# Altium schematic symbol library Radio Lib.SchLib: 41 symbols
Pins are listed as number, name and electrical type; pins without a type are passive.

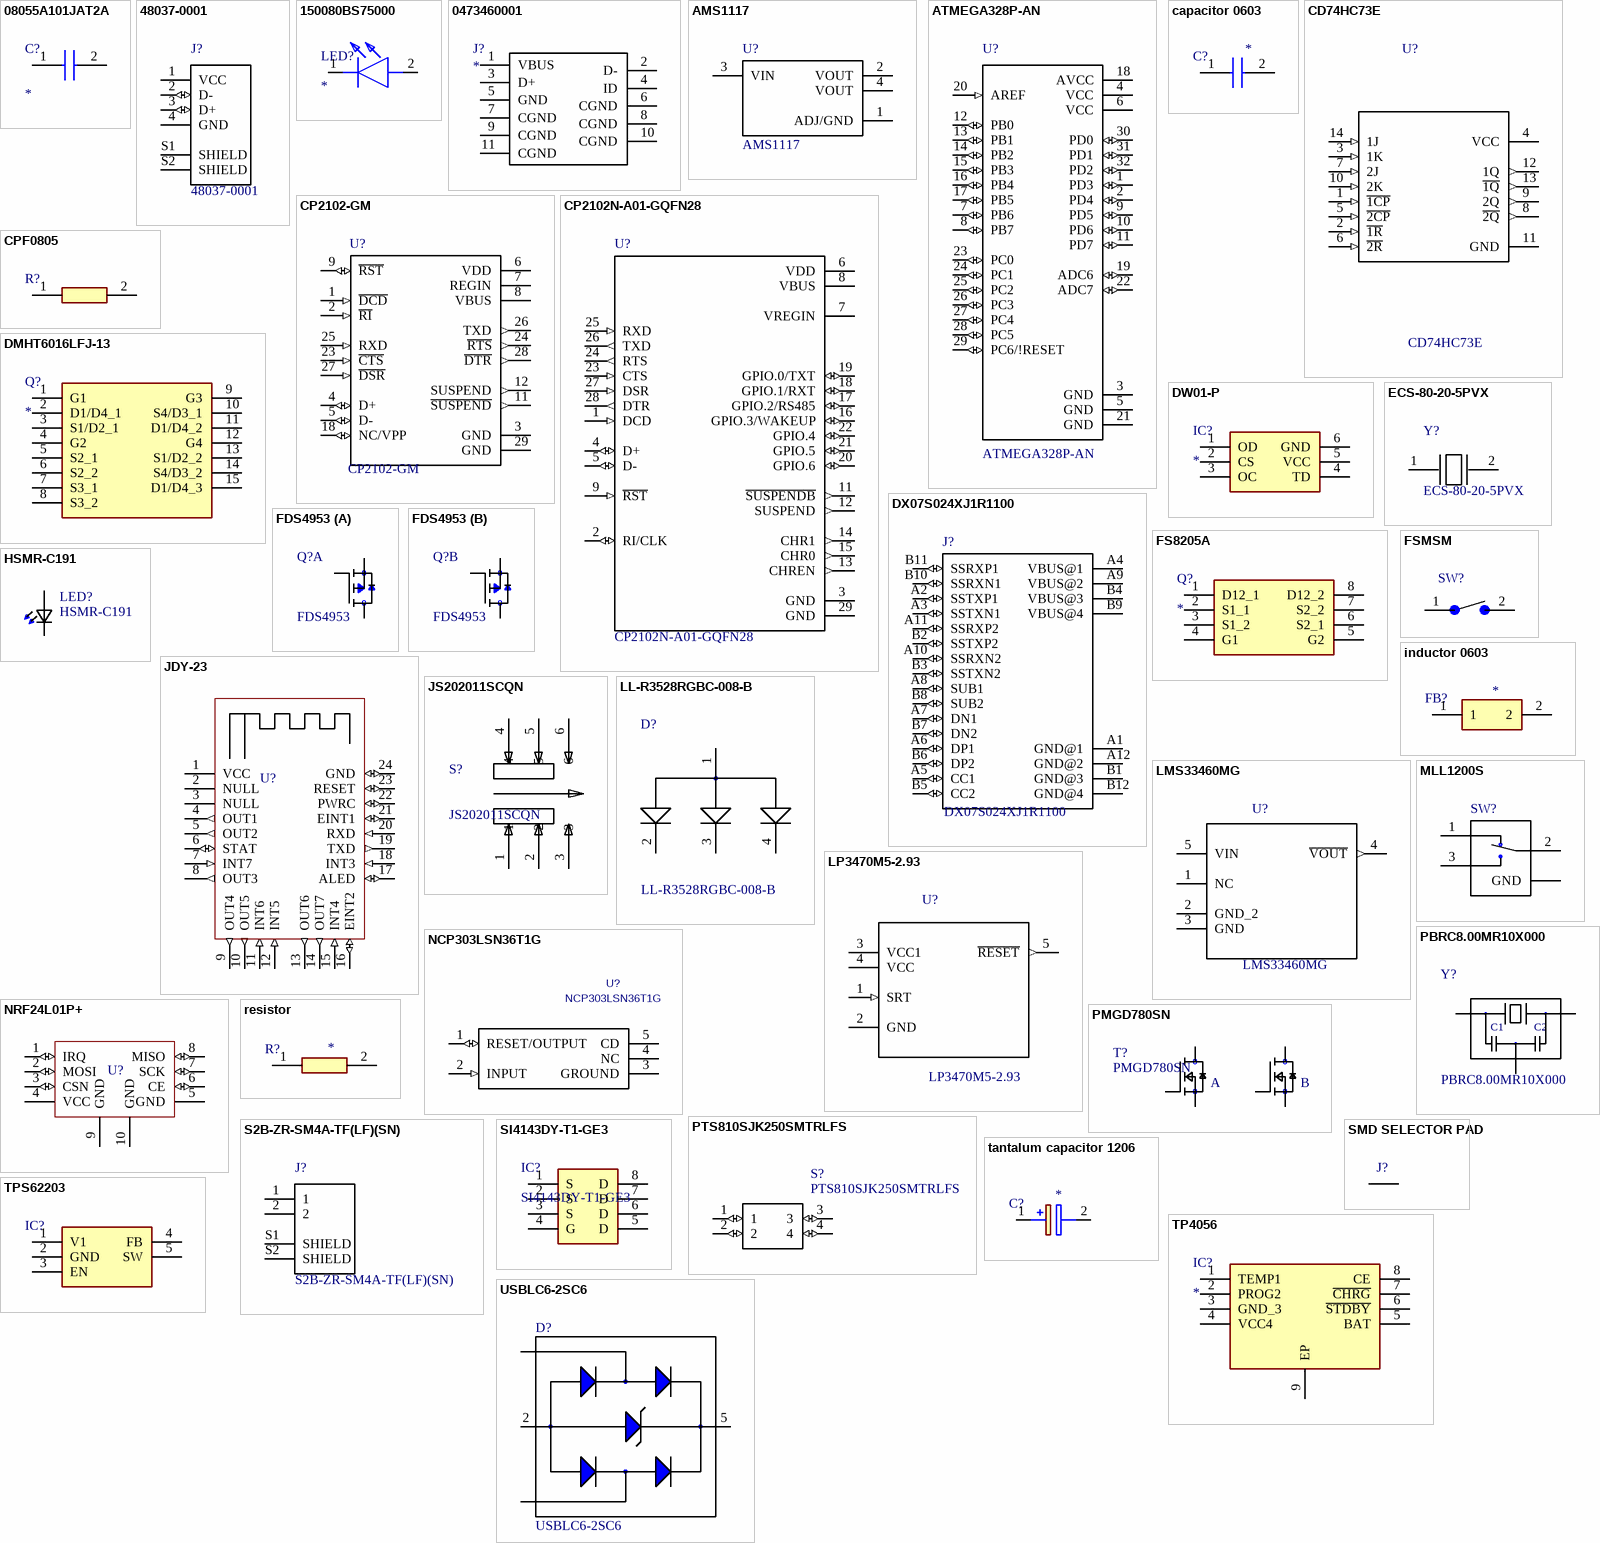
[diagram p0: symbols 08055A101JAT2A to USBLC6-2SC6]

## 08055A101JAT2A
designator C?
Capacitor; Manufacturer_Name: AVX; Manufacturer_Part_Number: 08055A101JAT2A; Allied_Number: 70474488; Datasheet Link: https://componentsearchengine.com/Datasheets/1/06031A100FAT2A.pdf; Height: 0.94mm; Mouser Part Number: 581-08055A101J; Mouser Price/Stock: https://www.mouser.com/Search/Refine.aspx?Keyword=581-08055A101J; RS Part Number: 0391000P; RS Price/Stock: http://uk.rs-online.com/web/p/products/0391000P; Allied Price/Stock: https://www.alliedelec.com/avx-08055a101jat2a/70474488/; Value: *
footprint CAPC2012X94N
pins: 1, 2

## 48037-0001
designator J?
USB-A _USB TYPE-A_ USB 2.0 Plug Connector 4 Position Through Hole, Right Angle; MF: Molex; Availability: Unavailable; Price: None; SnapEDA_Link: https://www.snapeda.com/parts/48037-0001/Molex/view-part/49135/?ref=snap; Package: None; MP: 48037-0001; Value: *
footprint *MOLEX_48037-0001_48037-0001(Primary)
pins: 1 VCC (power), 2 D- (io), 3 D+ (io), 4 GND (power), S1 SHIELD, S2 SHIELD

## 150080BS75000
designator LED?
LED; Manufacturer_Name: Wurth Elektronik; Manufacturer_Part_Number: 150080BS75000; Datasheet Link: https://katalog.we-online.com/led/datasheet/150080BS75000.pdf; Height: 0.8mm; Mouser Part Number: 710-150080BS75000; Mouser Price/Stock: https://www.mouser.com/Search/Refine.aspx?Keyword=710-150080BS75000; RS Part Number: 8154228P; RS Price/Stock: http://uk.rs-online.com/web/p/products/8154228P
footprint LEDC2012X80N
pins: 1 K, 2 A

## 0473460001
designator J?
USB - micro B USB 2.0 Receptacle Connector 5 Position Surface Mount, Right Angle; Manufacturer_Name: Molex; Manufacturer_Part_Number: 0473460001; Datasheet Link: http://www.molex.com/pdm_docs/sd/473460001_sd.pdf; Mouser Part Number: N/A; Mouser Price/Stock: https://www.mouser.com/Search/Refine.aspx?Keyword=N%2FA; Digi-Key_Part_Number: WM17141CT-ND; Digi-Key_Purchase_URL: https://www.digikey.com/product-detail/en/molex/0473460001/WM17141CT-ND/1782474; EU_RoHS_Compliance: Compliant; Height: 2.94mm; MF: Molex
footprint 0473460001
pins: 1 VBUS, 2 D-, 3 D+, 4 ID, 5 GND, 6 CGND, 7 CGND, 8 CGND, 9 CGND, 10 CGND, 11 CGND

## AMS1117
designator U?
1A LOW DROPOUT VOLTAGE REGULATOR; MF: Seeed Technology; MP: AMS1117; SnapEDA_Link: https://www.snapeda.com/parts/AMS1117/Seeed%20Technology%20Co.%2C%20Ltd/view-part/?ref=snap; Price: None; Package: SOT-223 Seeed Technology; Availability: Unavailable; Value: *
footprint *SOT229P700X180-4N
pins: 1 ADJ/GND (power), 2 VOUT (power), 3 VIN (power), 4 VOUT (power)

## ATMEGA328P-AN
designator U?
AVR AVRÂ® ATmega Microcontroller IC 8-Bit 20MHz 32KB _16K x 16_ FLASH 32-TQFP _7x7_; MF: Microchip; SnapEDA_Link: https://www.snapeda.com/parts/ATMEGA328P-AN/Microchip/view-part/1227245/?ref=snap; Availability: Unavailable; Price: None; Package: TQFP-32 Microchip; MP: ATMEGA328P-AN; Value: *
footprint *QFP80P900X900X120-32N
pins: 1 PD3 (io), 2 PD4 (io), 3 GND (power), 4 VCC (power), 5 GND (power), 6 VCC (power), 7 PB6 (io), 8 PB7 (io), 9 PD5 (io), 10 PD6 (io), 11 PD7 (io), 12 PB0 (io), 13 PB1 (io), 14 PB2 (io), 15 PB3 (io), 16 PB4 (io), 17 PB5 (io), 18 AVCC (power), 19 ADC6 (io), 20 AREF (in), 21 GND (power), 22 ADC7 (io), 23 PC0 (io), 24 PC1 (io), 25 PC2 (io), 26 PC3 (io), 27 PC4 (io), 28 PC5 (io), 29 PC6/!RESET (io), 30 PD0 (io), 31 PD1 (io), 32 PD2 (io)

## capacitor 0603
designator C?
Capacitor; value: *
footprint *CAPC1608X95N
pins: 1, 2

## CD74HC73E
designator U?
Flip Flop 2 Element JK Type 1; MF: Texas; Availability: Unavailable; Price: None; MP: CD74HC73E; SnapEDA_Link: https://www.snapeda.com/parts/CD74HC73E/Texas%20Instruments/view-part/597555/?ref=snap; Value: *
footprint *SOIC127P600X175-14N
pins: 1 ~{1CP} (in), 2 ~{1R} (in), 3 1K (in), 4 VCC (power), 5 ~{2CP} (in), 6 ~{2R} (in), 7 2J (in), 8 ~{2Q} (out), 9 2Q (out), 10 2K (in), 11 GND, 12 1Q (out), 13 ~{1Q} (out), 14 1J (in)

## CP2102-GM
designator U?
USB Bridge, USB to UART USB 2.0 UART Interface 28-QFN _5x5_; MF: Silicon Labs; Package: QFN-28 Silicon Labs; MP: CP2102-GM; SnapEDA_Link: https://www.snapeda.com/parts/CP2102-GM/Silicon%20Labs/view-part/135876/?ref=snap; Availability: Unavailable; Price: None; Value: *
footprint *QFN50P500X500X100-29N
pins: 1 ~{DCD} (in), 2 ~{RI} (in), 3 GND (power), 4 D+ (io), 5 D- (io), 6 VDD (power), 7 REGIN (power), 8 VBUS (power), 9 ~{RST} (io), 11 ~{SUSPEND} (out), 12 SUSPEND (out), 18 NC/VPP (io), 23 ~{CTS} (in), 24 ~{RTS} (out), 25 RXD (in), 26 TXD (out), 27 ~{DSR} (in), 28 ~{DTR} (out), 29 GND (power)

## CP2102N-A01-GQFN28
designator U?
USB Bridge, USB to UART USB 2.0 UART Interface 28-QFN _5x5_; MF: Silicon Labs; Package: QFN-28 Silicon Labs; Price: None; Availability: Unavailable; MP: CP2102N-A01-GQFN28; SnapEDA_Link: https://www.snapeda.com/parts/CP2102N-A01-GQFN28/Silicon%20Labs/view-part/554799/?ref=snap; Value: *
footprint *QFN50P500X500X80-29N
pins: 1 DCD (in), 2 RI/CLK (io), 3 GND (power), 4 D+ (io), 5 D- (io), 6 VDD (power), 7 VREGIN (power), 8 VBUS (power), 9 ~{RST} (in), 11 ~{SUSPENDB} (out), 12 SUSPEND (out), 13 CHREN (out), 14 CHR1 (out), 15 CHR0 (out), 16 GPIO.3/WAKEUP (io), 17 GPIO.2/RS485 (io), 18 GPIO.1/RXT (io), 19 GPIO.0/TXT (io), 20 GPIO.6 (io), 21 GPIO.5 (io), 22 GPIO.4 (io), 23 CTS (in), 24 RTS (out), 25 RXD (in), 26 TXD (out), 27 DSR (in), 28 DTR (out), 29 GND (power)

## CPF0805
designator R?  (value not drawn)
Resistor; Manufacturer_Name: TE Connectivity; Manufacturer_Part_Number: CPF0805B100KE; Allied_Number: 70286772; Datasheet Link: http://docs-europe.electrocomponents.com/webdocs/13d1/0900766b813d116f.pdf; Height: 0.65mm; Mouser Part Number: 279-CPF0805B100KE; Mouser Price/Stock: https://www.mouser.com/Search/Refine.aspx?Keyword=279-CPF0805B100KE; RS Part Number: 6662673; RS Price/Stock: https://uk.rs-online.com/web/p/products/6662673; Allied Price/Stock: https://www.alliedelec.com/te-connectivity-cpf0805b100ke/70286772/; Value: *
footprint RESC2012X65N
pins: 1, 2

## DMHT6016LFJ-13
designator Q?
Transistor; Manufacturer_Name: Diodes Inc.; Manufacturer_Part_Number: DMHT6016LFJ-13; Datasheet Link: https://www.mouser.com/datasheet/2/115/DMHT6016LFJ-1115051.pdf; Height: 0.8mm; Mouser Part Number: 621-DMHT6016LFJ-13; Mouser Price/Stock: https://www.mouser.com/Search/Refine.aspx?Keyword=621-DMHT6016LFJ-13
footprint DMHT6016LFJ13
pins: 1 G1, 2 D1/D4_1, 3 S1/D2_1, 4 G2, 5 S2_1, 6 S2_2, 7 S3_1, 8 S3_2, 9 G3, 10 S4/D3_1, 11 D1/D4_2, 12 G4, 13 S1/D2_2, 14 S4/D3_2, 15 D1/D4_3

## DW01-P
designator IC?
Integrated Circuit; Manufacturer_Name: Fortune Semiconductor Corporation; Manufacturer_Part_Number: DW01-P; Datasheet Link: https://cdn.sparkfun.com/assets/learn_tutorials/2/5/1/DW01-P_DataSheet_V10.pdf; Height: 1.35mm; ComponentLink1Description: DW01; ComponentLink1URL: https://lcsc.com/product-detail/MOSFET_DW01_C181096.html
footprint SOT95P280X135-6N
pins: 1 OD, 2 CS, 3 OC, 4 TD, 5 VCC, 6 GND

## DX07S024XJ1R1100
designator J?
Cut Tape - Usb Type c Receptacle Mid Mnt Dual r; MF: JAE Electronics; SnapEDA_Link: https://www.snapeda.com/parts/DX07S024XJ1R1100/JAE%20Electronics/view-part/?ref=snap; Package: None; MP: DX07S024XJ1R1100; Availability: Unavailable; Price: None; Value: *
footprint *JAE_DX07S024XJ1R1100_DX07S024XJ1R1100(Primary)
pins: A1 GND@1 (power), A2 SSTXP1 (io), A3 SSTXN1 (io), A4 VBUS@1 (power), A5 CC1 (io), A6 DP1 (io), A7 DN1 (io), A8 SUB1 (io), A9 VBUS@2 (power), A10 SSRXN2 (io), A11 SSRXP2 (io), A12 GND@2 (power), B1 GND@3 (power), B2 SSTXP2 (io), B3 SSTXN2 (io), B4 VBUS@3 (power), B5 CC2 (io), B6 DP2 (io), B7 DN2 (io), B8 SUB2 (io), B9 VBUS@4 (power), B10 SSRXN1 (io), B11 SSRXP1 (io), B12 GND@4 (power)

## ECS-80-20-5PVX
designator Y?
8MHz Â±30ppm Crystal 20pF 80 Ohms HC-49/US; MF: ECS International; MP: ECS-80-20-5PVX-TR; SnapEDA_Link: https://www.snapeda.com/parts/ECS-80-20-5PVX-TR/ECS%20International/view-part/2721569/?ref=snap; Availability: Unavailable; Package: None; Price: None; Value: *
footprint *XTAL_ECS-100-20-5PVX
pins: 1, 2

## FDS4953
designator Q?
Mosfet Array 2 P-Channel _Dual_ 30V 5A 900mW Surface Mount 8-SOIC; MF: ON Semiconductor; SnapEDA_Link: https://www.snapeda.com/parts/FDS4953/ON%20Semiconductor/view-part/1564044/?ref=snap; MP: FDS4953; Package: SOIC-8 ON Semiconductor; Availability: Unavailable; Price: None; Value: *
footprint *SOIC127P600X175-8N
part A pins: 3 S, 4 G, 5 D, 6 D
part B pins: 1 S, 2 G, 7 D, 8 D

## FS8205A
designator Q?
Transistor; Manufacturer_Name: SII Semiconductor; Manufacturer_Part_Number: FS8205A; Datasheet Link: http://www.ic-fortune.com/upload/Download/FS8205A-DS-12_EN.pdf; Height: 1.2mm
footprint SOP65P640X120-8N
pins: 1 D12_1, 2 S1_1, 3 S1_2, 4 G1, 5 G2, 6 S2_1, 7 S2_2, 8 D12_2

## FSMSM
designator SW?, comment 1437566-3  (value not drawn)
Switch Tactile OFF _ON_ SPST Rectangular Button Gull Wing 0.05A 12VDC SMD Loose Piece; MF: TE Connectivity; MP: FSMSM; Configuration_Pole-Throw: Single Pole - Single Throw; Contact_Current_Rating: 50 mA; Availability: Unavailable; Price: None; Package: None; SnapEDA_Link: https://www.snapeda.com/parts/FSMSM/TE%20Connectivity%20ALCOSWITCH%20Switches/view-part/?ref=snap; TE_purchase_URL: https://www.te.com/usa-en/product-1437566-3.html?te_bu=Cor&te_type=disp&te_campaign=seda_glo_cor-seda-global-disp-prtnr-fy19-seda-model-bom-cta_sma-317_1&elqCampaignId=32493; Value: *
footprint *TE_FSMSM
pins: 1, 2

## HSMR-C191
designator LED?
Blue 473nm LED Indication - Discrete 3.4V 0603 _1608 Metric_; MF: Broadcom Limited; SnapEDA_Link: https://www.snapeda.com/parts/HSMR-C191/Broadcom%20Limited/view-part/2190324/?ref=snap; Availability: Unavailable; MP: HSMR-C191; Price: None; Package: 0603 Broadcom; Value: *
footprint *0603
pins: 1 K2, 2 A2

## inductor 0603
designator FB?
Ferrite Bead; value: *
footprint BEADC1608X95N
pins: 1, 2

## JDY-23
designator U?  (value not drawn)
Bluetooth Bluetooth v4.0 Transceiver Module 2.4GHz Integrated, Chip Surface Mount; MF: Sierra Wireless; SnapEDA_Link: https://www.snapeda.com/parts/BC118/Sierra%20Wireless/view-part/48683/?ref=snap; Price: None; Availability: Unavailable; Package: None; MP: JDY-23; Value: *
footprint *JDY-23
pins: 1 VCC (power), 2 NULL (power), 3 NULL (power), 4 OUT1 (out), 5 OUT2 (out), 6 STAT (io), 7 INT7 (in), 8 OUT3 (out), 9 OUT4 (out), 10 OUT5 (out), 11 INT6 (in), 12 INT5 (in), 13 OUT6 (out), 14 OUT7 (out), 15 INT4 (in), 16 EINT2 (io), 17 ALED (io), 18 INT3 (in), 19 TXD (out), 20 RXD (in), 21 EINT1 (io), 22 PWRC (io), 23 RESET (io), 24 GND (io)

## JS202011SCQN
designator S?
Slide Switch DPDT Surface Mount; MF: C&K; Price: None; Package: None; SnapEDA_Link: https://www.snapeda.com/parts/JS202011SCQN/C%26K/view-part/592122/?ref=snap; Availability: Unavailable; MP: JS202011SCQN; Value: *
footprint *SW_JS202011SCQN
pins: 1, 2, 3, 4, 5, 6

## LL-R3528RGBC-008-B
designator D?
LED; SMD; 3528, PLCC2; RGB; 3.5x2.8mm; 120Â°; Red lumin: 1; MF: Lucky Light; SnapEDA_Link: https://www.snapeda.com/parts/LL-R3528RGBC-008-B/Lucky%20Light/view-part/47649/?ref=snap; Price: None; Availability: Unavailable; MP: LL-R3528RGBC-008-B; Package: PLCC-2 Lucky Light; Value: *
footprint *LED_LL-R3528RGBC-008-B
pins: 1 COMM_ANODE, 2 CATHODE_RED, 3 CATHODE_GREEN, 4 CATHODE_BLUE

## LMS33460MG
designator U?
3V Under Voltage Detector 5-SC70 -40 to 85; MF: Texas Instruments; MP: LMS33460MG/NOPB; Package: SC-70 Texas Instruments; Price: None; Availability: Unavailable; SnapEDA_Link: https://www.snapeda.com/parts/LMS33460MG/NOPB/Texas%20Instruments/view-part/16255/?ref=snap; Value: *
footprint *SOT65P210X110-5N
pins: 1 NC, 2 GND_2, 3 GND, 4 ~{VOUT} (out), 5 VIN (power)

## LP3470M5-2.93
designator U?
Volt Supervisor Monitor 0.5V to 5.5V 5-Pin SOT-23 T/R; MF: Texas Instruments; Price: None; Package: SOT-23 Texas Instruments; MP: LP3470M5-2.93; Availability: Unavailable; SnapEDA_Link: https://www.snapeda.com/parts/LP3470M5-2.93/Texas%20Instruments/view-part/30649/?ref=snap; Value: *
footprint *SOT95P285X120-5N
pins: 1 SRT (in), 2 GND, 3 VCC1 (power), 4 VCC (power), 5 ~{RESET} (out)

## MLL1200S
designator SW?, comment 1437575-1  (value not drawn)
Slide Switch SPDT Surface Mount, Right Angle; MP: MLL1200S; MF: TE Connectivity; TE_purchase_URL: https://www.te.com/usa-en/product-1437575-1.html?te_bu=Cor&te_type=disp&te_campaign=seda_glo_cor-seda-global-disp-prtnr-fy19-seda-model-bom-cta_sma-317_1&elqCampaignId=32493; Availability: Unavailable; SnapEDA_Link: https://www.snapeda.com/parts/MLL1200S/TE%20Connectivity%20ALCOSWITCH%20Switches/view-part/1494234/?ref=snap; Price: None; Package: None; Value: *
footprint *SW_MLL1200S_MLL1200S(Primary)
pins: 1, 2, 3, G1 GND (power), G2 GND (power), G3 GND (power), G4 GND (power)

## NCP303LSN36T1G
designator U?
C: Copyright (C) 2016 Accelerated Designs. All rights reserved; Vendor: ON Semiconductor; Value: NCP303LSN36T1G; Manufacturer_Part_Number: NCP303LSN36T1G; Copyright: Copyright (C) 2016 Accelerated Designs. All rights reserved
footprint TSOP-5
pins: 1 RESET/OUTPUT (io), 2 INPUT (in), 3 GROUND (power), 4 NC, 5 CD

## NRF24L01P+
designator U?  (value not drawn)
Parameter 1: *
footprint NRF24L01P+
pins: 1 IRQ (io), 2 MOSI (io), 3 CSN (io), 4 VCC (power), 5 GND (power), 6 CE (io), 7 SCK (io), 8 MISO (io), 9 GND (power), 10 GND (power)

## PBRC8.00MR10X000
designator Y?
8MHz Ceramic Resonator Built in Capacitor 15pF Â±0.1% -40Â°C ~ 85Â°C Surface Mount; MF: Kyocera International; Package: SMD-3 AVX / Kyocera; MP: PBRC8.00MR10X000; SnapEDA_Link: https://www.snapeda.com/parts/PBRC8.00MR10X000/Kyocera%20International%20Inc.%20Electronic%20Components/view-part/481757/?ref=snap; Availability: Unavailable; Price: None; Value: *
footprint *XTAL_PBRC8.00MR10X000
pins: 1 IN, 2 GND, 3 OUT
text: C1; C2

## PMGD780SN
designator T?
Mosfet Array 2 N-Channel _Dual_ 20V 1.2A 390mW Surface Mount 6-TSSOP; MF: NXP Semiconductors; Package: SOT-363 NXP Semiconductors; Price: None; MP: PMGD780SN; Availability: Unavailable; SnapEDA_Link: https://www.snapeda.com/parts/PMGD130UN/NXP%20Semiconductors/view-part/4258135/?ref=snap; Value: *
footprint *SOP65P210X110-6N
pins: 1 S, 2 G, 3 D, 4 S, 5 G, 6 D
text: A; B

## PTS810SJK250SMTRLFS
designator S?
Tactile Switch SPST-NO Top Actuated Surface Mount; MF: C&K; MP: PTS810 SJK 250 SMTR LFS; Package: None; Availability: Unavailable; Price: None; SnapEDA_Link: https://www.snapeda.com/parts/PTS810%20SJK%20250%20SMTR%20LFS/C%26K/view-part/3076435/?ref=snap; Value: *
footprint *PTS810SJG250SMTRLFS
pins: 1 (io), 2 (io), 3 (io), 4 (io)

## resistor
designator R?
Resistor; value: *
footprint RESC1608X55N
pins: 1, 2

## S2B-ZR-SM4A-TF(LF)(SN)
designator J?
Connector Header Surface Mount, Right Angle 2 position 0.059 _1.50mm_; MF: JST Sales; MP: S2B-ZR-SM4A-TF_LF__SN_; Package: None; SnapEDA_Link: https://www.snapeda.com/parts/S2B-ZR-SM4A-TF%28LF%29%28SN%29/JST%20Sales%20America%20Inc./view-part/567593/?ref=snap; Availability: Unavailable; Price: None; Value: *
footprint *JST_S2B-ZR-SM4A-TF(LF)(SN)_S2B-ZR-SM4A-TF(LF)(SN)(Primary)
pins: 1, 2, S1 SHIELD, S2 SHIELD

## SI4143DY-T1-GE3
designator IC?
Integrated Circuit
footprint SI4143DY-T1-GE3
pins: 1 S, 2 S, 3 S, 4 G, 5 D, 6 D, 7 D, 8 D (power)

## SMD SELECTOR PAD
designator J?  (value not drawn)
footprint SMD JUMPER
pins: 1 A, 2 B

## tantalum capacitor 1206
designator C?
Capacitor Polarised; value: *
footprint CAPPM3216X180N
pins: 1 +, 2 -

## TP4056
designator IC?
Integrated Circuit; Manufacturer_Name: NanJing Top Power; Manufacturer_Part_Number: TP4056; Datasheet Link: https://dlnmh9ip6v2uc.cloudfront.net/datasheets/Prototyping/TP4056.pdf; Height: 1.75mm
footprint SOIC127P600X175-9N
pins: 1 TEMP1, 2 PROG2, 3 GND_3, 4 VCC4, 5 BAT, 6 ~{STDBY}, 7 ~{CHRG}, 8 CE, 9 EP

## TPS62203
designator IC?  (value not drawn)
Integrated Circuit
footprint SOT95P280X145-5N
pins: 1 V1, 2 GND, 3 EN, 4 FB, 5 SW

## USBLC6-2SC6
designator D?
USBLC6 Series 2 Line 6 V Uni / Bi-Directional ESD Protection - SOT-23-6; MF: STMicroelectronics; Package: SOT-23-6 STMicroelectronics; Price: None; SnapEDA_Link: https://www.snapeda.com/parts/USBLC6-2SC6/STMicroelectronics/view-part/?ref=snap; MP: USBLC6-2SC6; Availability: Unavailable; Value: *
footprint *SOT95P280X145-6N
pins: 1 I/O1 (io), 2 GND (power), 3 I/O2 (io), 4 I/O2 (io), 5 VBUS (power), 6 I/O1 (io)

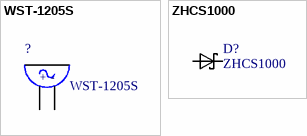
[diagram p1: symbols WST-1205S to ZHCS1000]

## WST-1205S
designator ?
Buzzer 2.3khz 4-6vdc Pcb Wash; MF: Soberton Inc.; Price: None; Package: Soberton Inc.; MP: WST-1205S; Availability: Unavailable; SnapEDA_Link: https://www.snapeda.com/parts/WST-1205S/Soberton%20Inc./view-part/?ref=snap; Value: *
footprint *WST-1205S_WST-1205S(Primary)
pins: NEG 2, POS 1
text: +; -

## ZHCS1000
designator D?
Diode Schottky 40V 1A _DC_ Surface Mount SOT-23-3; MF: Diodes Inc.; Availability: Unavailable; Package: SOT-23 Diodes Inc.; Price: None; MP: ZHCS1000; SnapEDA_Link: https://www.snapeda.com/parts/ZHCS1000/Diodes%20Inc./view-part/53280/?ref=snap; Value: *
footprint *SOT-23
pins: 1 K, 3 A